# Altium footprint library 电子管.PcbLib: 3 footprints
Each footprint in its own frame and in the unit in brackets; x right, y up, seen from the top. Pads: shape width x height; smd on the part's side, far side on the other; paste and mask are expansions set on the pad; w line width, h text height; cw(c..) or ccw(c..) is an arc to the next point about the centre after c.
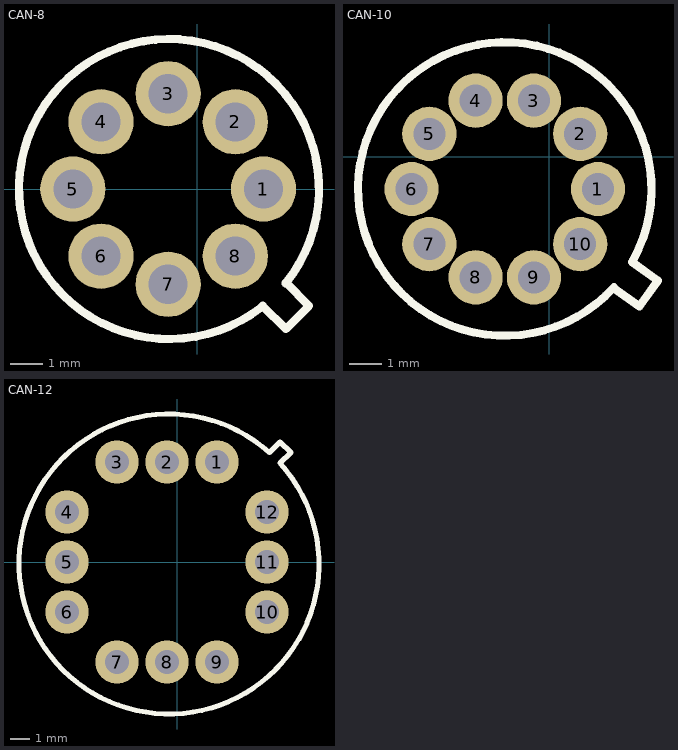
[diagram p0: the footprints below, top view; thin cyan lines are the x and y axes]

## CAN-8 [mm]
pads (8):
  round 2 hole 1.2: 1(2.032,0) 2(1.168,2.057) 3(-0.889,2.921) 4(-2.946,2.057) 5(-3.81,0) 6(-2.946,-2.057) 7(-0.889,-2.921) 8(1.168,-2.057)
TopOverlay:
  lines w0.254: 1.967,-3.623 cw(c-0.864,0) 2.709,-2.893 ; 2.007,-3.581 2.718,-4.293 3.429,-3.581 2.718,-2.87

## CAN-10 [mm]
pads (10):
  round 1.7 hole 1: 1(1.524,-1.016) 2(0.965,0.711) 3(-0.483,1.753) 4(-2.311,1.753) 5(-3.759,0.711) 6(-4.318,-1.016) 7(-3.759,-2.743) 8(-2.311,-3.785) 9(-0.483,-3.785) 10(0.965,-2.743)
TopOverlay:
  lines w0.254: 2.007,-4.115 2.819,-4.699 3.404,-3.886 2.591,-3.302 ; 2.02,-4.092 cw(c-1.397,-1.016) 2.624,-3.245

## CAN-12 [mm]
pads (12):
  round 2.2 hole 1.2: 1(2.032,5.08) 2(-0.508,5.08) 3(-3.048,5.08) 4(-5.588,2.54) 5(-5.588,0) 6(-5.588,-2.54) 7(-3.048,-5.08) 8(-0.508,-5.08) 9(2.032,-5.08) 10(4.572,-2.54) 11(4.572,0) 12(4.572,2.54)
TopOverlay:
  lines w0.254: 4.692,5.561 ccw(c-0.406,-0.102) 5.256,4.997 ; 4.699,5.563 5.232,6.096 5.791,5.563 5.232,5.029